# Altium footprint library SIM800L.PcbLib: 1 footprints
Each footprint in its own frame and in the unit in brackets; x right, y up, seen from the top. Pads: shape width x height; smd on the part's side, far side on the other; paste and mask are expansions set on the pad; w line width, h text height; cw(c..) or ccw(c..) is an arc to the next point about the centre after c.
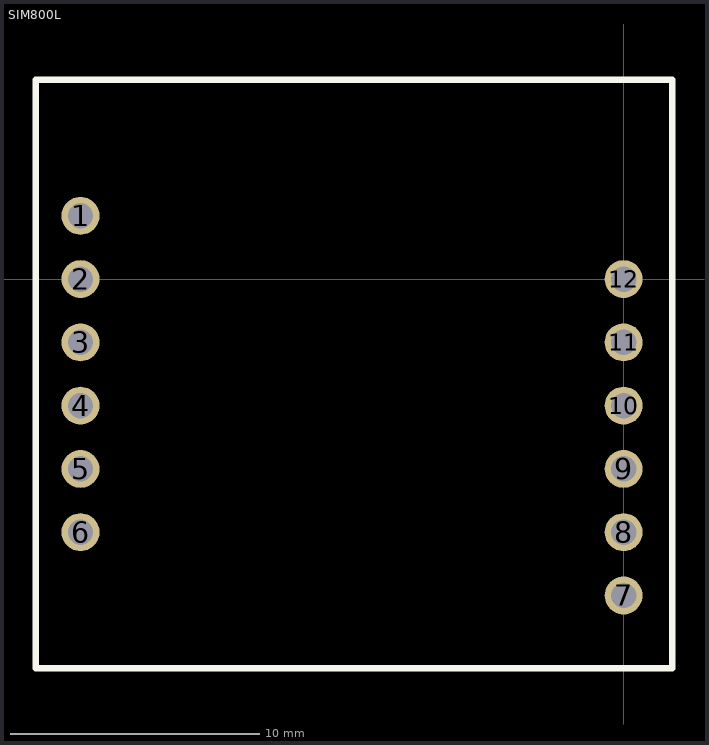
[diagram p0: the footprint, top view; thin cyan lines are the x and y axes]

## SIM800L [mil] "SIM800L"
pads (12):
  round 60 hole 40.16: 1(-858.27,100) 2(-858.27,0) 3(-858.27,-100) 4(-858.27,-200) 5(-858.27,-300) 6(-858.27,-400) 7(0,-500) 8(0,-400) 9(0,-300) 10(0,-200) 11(0,-100) 12(0,0)
Top Overlay:
  lines w10: -928.9,-615 -928.9,315 76.77,315 76.77,-615 -928.9,-615
3D body "User Library-module_sim800l.STEP": height 397.59, standoff -94.49, extent -917.79,-606.37 66.46,304.41